# EAGLE library part TASTER_2_SCHLIESSER+2_OEFFNER (library e-schalter)
Taster, 2 Schließer, 2 Öffner
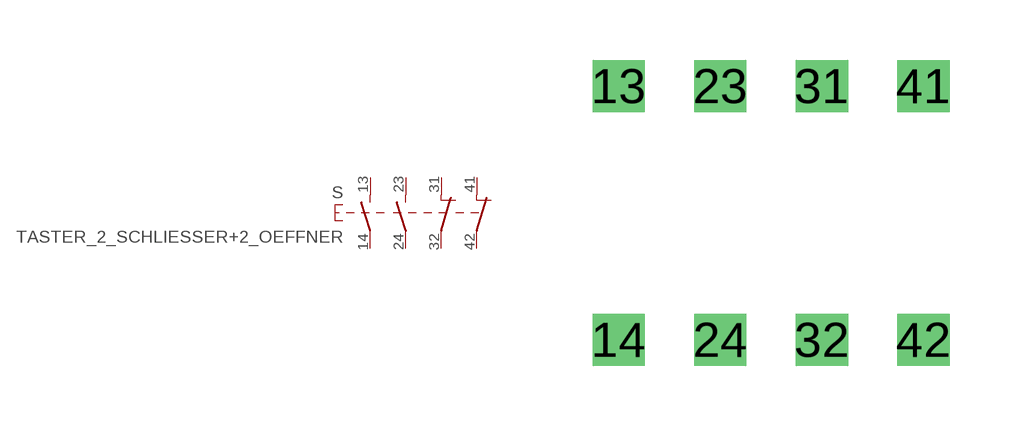
[diagram p8: symbol with the pads of SCHALTER_2-SCHLIESSER_2-OEFFNER; footprint SCHALTER_2-SCHLIESSER_2-OEFFNER]

Designator prefix S

## TASTER_2_SCHLIESSER+2_OEFFNER  [SCHALTER_2-SCHLIESSER_2-OEFFNER]
13  13  pas
14  14  pas
23  23  pas
24  24  pas
31  31  pas
32  32  pas
41  41  pas
42  42  pas

## Footprint SCHALTER_2-SCHLIESSER_2-OEFFNER (pad centres in mm)
Dummy
drill 0.8 square: 13 -3.81,3.175; 14 -3.81,-3.175; 23 -1.27,3.175; 24 -1.27,-3.175; 31 1.27,3.175; 32 1.27,-3.175; 41 3.81,3.175; 42 3.81,-3.175